# Altium footprint library Alcetronics_IC.PcbLib: 43 footprints (part 2 of 3)
Each footprint in its own frame and in the unit in brackets; x right, y up, seen from the top. Pads: shape width x height; smd on the part's side, far side on the other; paste and mask are expansions set on the pad; w line width, h text height; cw(c..) or ccw(c..) is an arc to the next point about the centre after c.
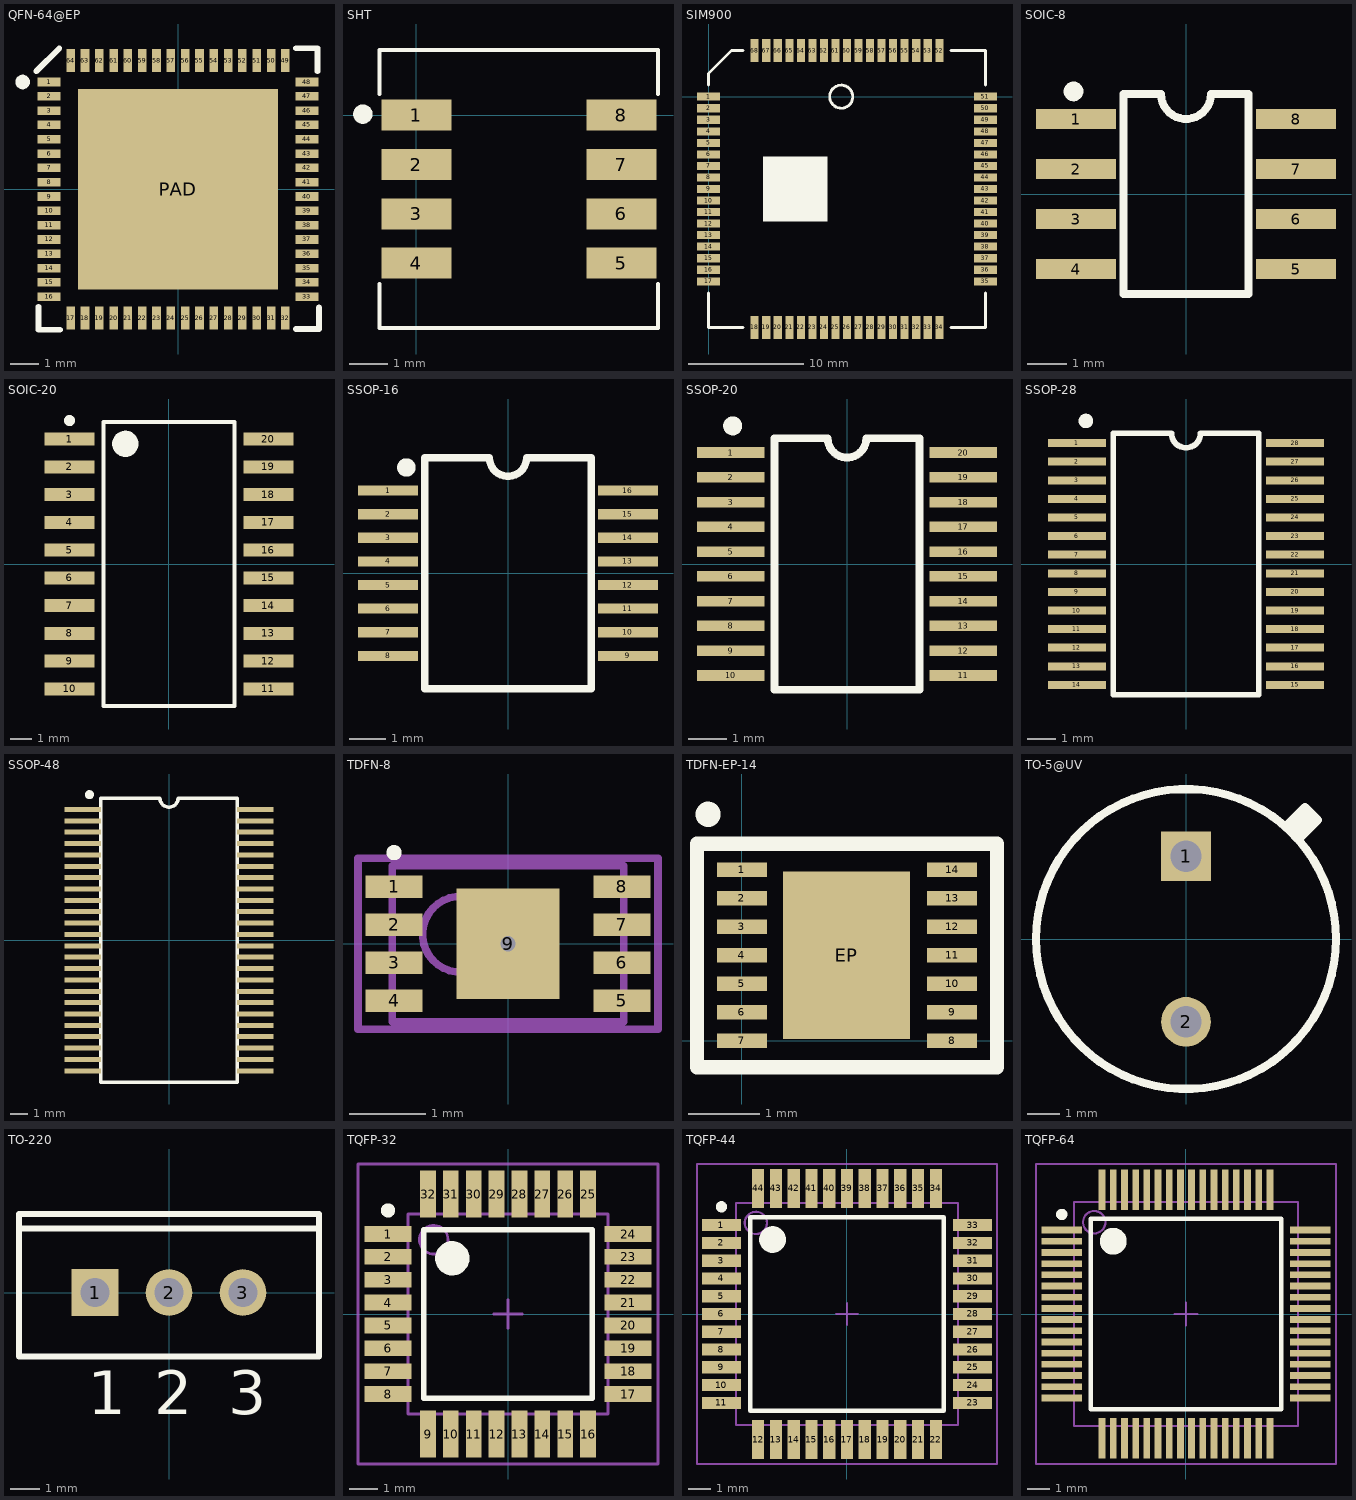
[diagram p1: the footprints below, top view; thin cyan lines are the x and y axes]

## QFN-64@EP [mm]
pads (65):
  rect 0.8x0.3 smd: 1(-4.5,3.75) 2(-4.5,3.25) 3(-4.5,2.75) 4(-4.5,2.25) 5(-4.5,1.75) 6(-4.5,1.25) 7(-4.5,0.75) 8(-4.5,0.25) 9(-4.5,-0.25) 10(-4.5,-0.75) 11(-4.5,-1.25) 12(-4.5,-1.75) 13(-4.5,-2.25) 14(-4.5,-2.75) 15(-4.5,-3.25) 16(-4.5,-3.75) 33(4.5,-3.75) 34(4.5,-3.25) 35(4.5,-2.75) 36(4.5,-2.25) 37(4.5,-1.75) 38(4.5,-1.25) 39(4.5,-0.75) 40(4.5,-0.25) 41(4.5,0.25) 42(4.5,0.75) 43(4.5,1.25) 44(4.5,1.75) 45(4.5,2.25) 46(4.5,2.75) 47(4.5,3.25) 48(4.5,3.75)
  rect 0.3x0.8 smd: 17(-3.75,-4.5) 18(-3.25,-4.5) 19(-2.75,-4.5) 20(-2.25,-4.5) 21(-1.75,-4.5) 22(-1.25,-4.5) 23(-0.75,-4.5) 24(-0.25,-4.5) 25(0.25,-4.5) 26(0.75,-4.5) 27(1.25,-4.5) 28(1.75,-4.5) 29(2.25,-4.5) 30(2.75,-4.5) 31(3.25,-4.5) 32(3.75,-4.5) 49(3.75,4.5) 50(3.25,4.5) 51(2.75,4.5) 52(2.25,4.5) 53(1.75,4.5) 54(1.25,4.5) 55(0.75,4.5) 56(0.25,4.5) 57(-0.25,4.5) 58(-0.75,4.5) 59(-1.25,4.5) 60(-1.75,4.5) 61(-2.25,4.5) 62(-2.75,4.5) 63(-3.25,4.5) 64(-3.75,4.5)
  rect 7x7 smd: PAD(0,0)
Top Overlay:
  circle w0.254: c-5.427,3.75 r0.127
  lines w0.2: -4.95,4.125 -4.15,4.925 ; -4.875,-4.1 -4.875,-4.9 -4.125,-4.9 ; 4.125,-4.875 4.925,-4.875 4.925,-4.125 ; 4.125,4.925 4.875,4.925 4.875,4.125 ; -4.15,4.925 -4.15,4.925

## SHT [mm] "Sensirion SHTx Humidity Sensor Footprint"
height 2.6
pads (8):
  rect 1.8x0.8 smd: 1(0,0.005) 2(0,-1.27) 3(0,-2.54) 4(0,-3.81) 5(5.28,-3.81) 6(5.28,-2.54) 7(5.28,-1.27) 8(5.28,0.005)
Top Overlay:
  circle w0.25: c-1.383,0.03 r0.125
  lines w0.1: -0.95,-4.35 -0.95,-5.48 6.225,-5.48 6.225,-4.35 ; -0.95,0.55 -0.95,1.68 6.225,1.68 6.225,0.55

## SIM900 [mm]
pads (68):
  rect 2x0.7 smd: 1(0,0) 2(0,-1) 3(0,-2) 4(0,-3) 5(0,-4) 6(0,-5) 7(0,-6) 8(0,-7) 9(0,-8) 10(0,-9) 11(0,-10) 12(0,-11) 13(0,-12) 14(0,-13) 15(0,-14) 16(0,-15) 17(0,-16) 35(24,-16) 36(24,-15) 37(24,-14) 38(24,-13) 39(24,-12) 40(24,-11) 41(24,-10) 42(24,-9) 43(24,-8) 44(24,-7) 45(24,-6) 46(24,-5) 47(24,-4) 48(24,-3) 49(24,-2) 50(24,-1) 51(24,0)
  rect 0.7x2 smd: 18(4,-20) 19(5,-20) 20(6,-20) 21(7,-20) 22(8,-20) 23(9,-20) 24(10,-20) 25(11,-20) 26(12,-20) 27(13,-20) 28(14,-20) 29(15,-20) 30(16,-20) 31(17,-20) 32(18,-20) 33(19,-20) 34(20,-20) 52(20,4) 53(19,4) 54(18,4) 55(17,4) 56(16,4) 57(15,4) 58(14,4) 59(13,4) 60(12,4) 61(11,4) 62(10,4) 63(9,4) 64(8,4) 65(7,4) 66(6,4) 67(5,4) 68(4,4)
Top Overlay:
  circle w0.254: c11.5,0 r1
  rectangle: 4.7,-10.8 10.3,-5.2
  lines w0.254: 0,-17 0,-20 3,-20 ; 0,1 0,2 2,4 3,4 ; 21,-20 24,-20 24,-17 ; 21,4 24,4 24,1

## SOIC-8 [mil] "Small Outline 8 leads Body Size 150mils"
pads (8):
  rect 80x20 smd: 1(-110,75) 2(-110,25) 3(-110,-25) 4(-110,-75) 5(110,-75) 6(110,-25) 7(110,25) 8(110,75)
Top Overlay:
  circle w9.84: c-112.5,102.56 r4.92
  lines w8: -62.5,-100 -62.5,100 -25,100 ccw(c0,100) 25,100 62.5,100 62.5,-100 -62.5,-100

## SOIC-20 [mm] "20-Pin Plastic Wide Body Small Outline Integrated Circuit 1.27 mm Pitch, IPC Medium Density"
height 2.65
pads (20):
  rect 2.3x0.6 smd: 1(-4.55,5.715) 2(-4.55,4.445) 3(-4.55,3.175) 4(-4.55,1.905) 5(-4.55,0.635) 6(-4.55,-0.635) 7(-4.55,-1.905) 8(-4.55,-3.175) 9(-4.55,-4.445) 10(-4.55,-5.715) 11(4.55,-5.715) 12(4.55,-4.445) 13(4.55,-3.175) 14(4.55,-1.905) 15(4.55,-0.635) 16(4.55,0.635) 17(4.55,1.905) 18(4.55,3.175) 19(4.55,4.445) 20(4.55,5.715)
Top Overlay:
  circle w0.6: c-2,5.5 r0.3
  circle w0.25: c-4.55,6.565 r0.125
  lines w0.2: -3,-6.5 3,-6.5 3,6.5 -3,6.5 -3,-6.5

## SSOP-16 [mil] "plastic shrink small outline package; 16 leads;"
height 43.31
pads (16):
  rect 65x11 smd: 1(-130,89.57) 2(-130,63.98) 3(-130,38.39) 4(-130,12.8) 5(-130,-12.8) 6(-130,-38.39) 7(-130,-63.98) 8(-130,-89.57) 9(130,-89.57) 10(130,-63.98) 11(130,-38.39) 12(130,-12.8) 13(130,12.8) 14(130,38.39) 15(130,63.98) 16(130,89.57)
Top Overlay:
  circle w10: c-110,114.57 r5
  lines w8: -90,-125 90,-125 90,125 20,125 cw(c0,125) -20,125 -90,125 -90,-125

## SSOP-20 [mil] "Shrink Small Outline; 20 Leads; Body Width 4.4 mm; Pitch 0.65 mm"
height 43.31
pads (20):
  rect 70x11 smd: 1(-120,115.16) 2(-120,89.57) 3(-120,63.98) 4(-120,38.39) 5(-120,12.8) 6(-120,-12.8) 7(-120,-38.39) 8(-120,-63.98) 9(-120,-89.57) 10(-120,-115.16) 11(120,-115.16) 12(120,-89.57) 13(120,-63.98) 14(120,-38.39) 15(120,-12.8) 16(120,12.8) 17(120,38.39) 18(120,63.98) 19(120,89.57) 20(120,115.16)
Top Overlay:
  circle w9.84: c-118.11,142.72 r4.92
  lines w8: -75,-130 75,-130 75,130 20,130 cw(c0,130) -20,130 -75,130 -75,-130

## SSOP-28 [mil]
pads (28):
  rect 80x11 smd: 1(-150,166.4) 2(-150,140.8) 3(-150,115.2) 4(-150,89.6) 5(-150,64) 6(-150,38.4) 7(-150,12.8) 8(-150,-12.8) 9(-150,-38.4) 10(-150,-64) 11(-150,-89.6) 12(-150,-115.2) 13(-150,-140.8) 14(-150,-166.4) 15(150,-166.4) 16(150,-140.8) 17(150,-115.2) 18(150,-89.6) 19(150,-64) 20(150,-38.4) 21(150,-12.8) 22(150,12.8) 23(150,38.4) 24(150,64) 25(150,89.6) 26(150,115.2) 27(150,140.8) 28(150,166.4)
Top Overlay:
  circle w10: c-137.8,196.85 r5
  lines w8: -100,-180 -100,180 -20,180 ccw(c0,180) 20,180 100,180 100,-180 -100,-180

## SSOP-48 [mil]
pads (48):
  rect 80x11 smd: 1(-190,287.5) 2(-190,262.5) 3(-190,237.5) 4(-190,212.5) 5(-190,187.5) 6(-190,162.5) 7(-190,137.5) 8(-190,112.5) 9(-190,87.5) 10(-190,62.5) 11(-190,37.5) 12(-190,12.5) 13(-190,-12.5) 14(-190,-37.5) 15(-190,-62.5) 16(-190,-87.5) 17(-190,-112.5) 18(-190,-137.5) 19(-190,-162.5) 20(-190,-187.5) 21(-190,-212.5) 22(-190,-237.5) 23(-190,-262.5) 24(-190,-287.5) 25(190,-287.5) 26(190,-262.5) 27(190,-237.5) 28(190,-212.5) 29(190,-187.5) 30(190,-162.5) 31(190,-137.5) 32(190,-112.5) 33(190,-87.5) 34(190,-62.5) 35(190,-37.5) 36(190,-12.5) 37(190,12.5) 38(190,37.5) 39(190,62.5) 40(190,87.5) 41(190,112.5) 42(190,137.5) 43(190,162.5) 44(190,187.5) 45(190,212.5) 46(190,237.5) 47(190,262.5) 48(190,287.5)
Top Overlay:
  circle w10: c-175,320 r5
  lines w8: -150,-312.5 150,-312.5 150,312.5 20,312.5 cw(c0,312.5) -20,312.5 -150,312.5 -150,-312.5

## TDFN-8 [mm] "SON, 8-Leads, Body 2x3mm, Pitch 0.5mm, Microchip Recommended"
height 0.8
pads (9):
  rect 0.75x0.3 smd: 1(-1.5,0.75) 2(-1.5,0.25) 3(-1.5,-0.25) 4(-1.5,-0.75) 5(1.5,-0.75) 6(1.5,-0.25) 7(1.5,0.25) 8(1.5,0.75)
  rect 1.36x1.46 smd: 9(0,0)
via 0,0 diameter 0.5 hole 0.2
Top Overlay:
  circle w0.1: c-1.5,1.2 r0.05
Mechanical 13:
  circle w0.1: c-0.625,0.125 r0.5
  lines w0.1: -1.525,-1.025 1.525,-1.025 1.525,1.025 -1.525,1.025 -1.525,-1.025
Mechanical 15:
  lines w0.1: -1.975,-1.125 -1.975,1.125 1.975,1.125 1.975,-1.125 -1.975,-1.125
3D body: height 0.8, standoff 0, extent -1.524,-1.024 1.524,1.024

## TDFN-EP-14 [mm]
pads (15):
  rect 0.7x0.2 smd mask+0: 1(0,2.4) 2(0,2) 4(0,1.2) 6(0,0.4) 9(2.95,0.4) 11(2.95,1.2) 13(2.95,2) 14(2.95,2.4)
  rect 0.7x0.2 smd paste+0 mask+0: 3(0,1.6) 5(0,0.8) 7(0,0) 8(2.95,0) 10(2.95,0.8) 12(2.95,1.6)
  rect 1.78x2.35 smd mask+0: EP(1.47,1.2)
Top Overlay:
  circle w0.254: c-0.475,3.18 r0.049
  lines w0.2: -0.63,-0.37 3.58,-0.37 3.58,2.765 -0.63,2.765 -0.63,-0.37

## TO-5@UV [mil] "UV Sensor PC10-2-TO"
height 165.35
pads (2):
  rect 60x60 hole 38: 1(0,100)
  round 60 hole 38: 2(0,-100)
Top Overlay:
  circle w10: c0,0 r181.1
  lines w10: 120.08,135.83 143.7,159.45 159.45,143.7 138.78,123.03 137.8,123.03 130.91,129.92 130.91,138.78 137.8,131.89 137.8,132.87 147.64,142.72 147.64,145.67 144.68,148.62 ; 138.78,142.72 144.68,148.62 ; 144.68,148.62 144.68,148.62

## TO-220 [mm] "TO, Thru-Hole, Vertical, Heatsink Mounted; 3 In-Line Leads; Pitch 2.54 mm"
height 19.7
pads (3):
  rect 1.6x1.6 hole 1: 1(-2.54,0)
  round 1.6 hole 1: 2(0,0) 3(2.54,0)
Top Overlay:
  lines w0.2: -5.15,2.2 5.15,2.2 ; -5.15,-2.2 -5.15,2.7 5.15,2.7 5.15,-2.2 -5.15,-2.2
  text "3" at 2.04,-4.175 h1.5
  text "2" at -0.5,-4.175 h1.5
  text "1" at -2.79,-4.175 h1.5

## TQFP-32 [mm] "Thin QFP, 32-Leads, Body 7x7mm, Pitch 0.8mm, IPC Medium Density"
height 1.2
pads (32):
  rect 1.65x0.55 smd: 1(-4.2,2.8) 2(-4.2,2) 3(-4.2,1.2) 4(-4.2,0.4) 5(-4.2,-0.4) 6(-4.2,-1.2) 7(-4.2,-2) 8(-4.2,-2.8) 17(4.2,-2.8) 18(4.2,-2) 19(4.2,-1.2) 20(4.2,-0.4) 21(4.2,0.4) 22(4.2,1.2) 23(4.2,2) 24(4.2,2.8)
  rect 0.55x1.65 smd: 9(-2.8,-4.2) 10(-2,-4.2) 11(-1.2,-4.2) 12(-0.4,-4.2) 13(0.4,-4.2) 14(1.2,-4.2) 15(2,-4.2) 16(2.8,-4.2) 25(2.8,4.2) 26(2,4.2) 27(1.2,4.2) 28(0.4,4.2) 29(-0.4,4.2) 30(-1.2,4.2) 31(-2,4.2) 32(-2.8,4.2)
Top Overlay:
  circle w0.25: c-4.2,3.625 r0.125
  circle w0.6: c-1.95,1.95 r0.3
  lines w0.2: -2.95,-2.95 -2.95,2.95 2.95,2.95 2.95,-2.95 -2.95,-2.95
Mechanical 13:
  circle w0.1: c-2.6,2.6 r0.5
  lines w0.1: -3.5,-3.5 -3.5,3.5 3.5,3.5 3.5,-3.5 -3.5,-3.5
Mechanical 15:
  lines w0.1: -0.5,0 0.5,0 ; 0,-0.5 0,0.5 ; -5.25,-5.25 -5.25,5.25 5.25,5.25 5.25,-5.25 -5.25,-5.25
3D body: height 1.2, standoff 0, extent -3.5,-3.5 3.5,3.5

## TQFP-44 [mm] "Thin QFP, 44-Leads, Body 10x10mm, Pitch 0.8mm, IPC Medium Density"
height 1.2
pads (44):
  rect 1.75x0.55 smd: 1(-5.65,4) 2(-5.65,3.2) 3(-5.65,2.4) 4(-5.65,1.6) 5(-5.65,0.8) 6(-5.65,0) 7(-5.65,-0.8) 8(-5.65,-1.6) 9(-5.65,-2.4) 10(-5.65,-3.2) 11(-5.65,-4) 23(5.65,-4) 24(5.65,-3.2) 25(5.65,-2.4) 26(5.65,-1.6) 27(5.65,-0.8) 28(5.65,0) 29(5.65,0.8) 30(5.65,1.6) 31(5.65,2.4) 32(5.65,3.2) 33(5.65,4)
  rect 0.55x1.75 smd: 12(-4,-5.65) 13(-3.2,-5.65) 14(-2.4,-5.65) 15(-1.6,-5.65) 16(-0.8,-5.65) 17(0,-5.65) 18(0.8,-5.65) 19(1.6,-5.65) 20(2.4,-5.65) 21(3.2,-5.65) 22(4,-5.65) 34(4,5.65) 35(3.2,5.65) 36(2.4,5.65) 37(1.6,5.65) 38(0.8,5.65) 39(0,5.65) 40(-0.8,5.65) 41(-1.6,5.65) 42(-2.4,5.65) 43(-3.2,5.65) 44(-4,5.65)
Top Overlay:
  circle w0.25: c-5.65,4.825 r0.125
  circle w0.6: c-3.35,3.35 r0.3
  lines w0.2: -4.35,-4.35 -4.35,4.35 4.35,4.35 4.35,-4.35 -4.35,-4.35
Mechanical 13:
  circle w0.1: c-4.1,4.1 r0.5
  lines w0.1: -5,-5 -5,5 5,5 5,-5 -5,-5
Mechanical 15:
  lines w0.1: -0.5,0 0.5,0 ; 0,-0.5 0,0.5 ; -6.75,-6.75 -6.75,6.75 6.75,6.75 6.75,-6.75 -6.75,-6.75
3D body: height 1.2, standoff 0, extent -5,-5 5,5

## TQFP-64 [mm] "Thin QFP, 64-Leads, Body 10x10mm, Pitch 0.5mm, IPC Medium Density"
height 1.2
pads (64):
  rect 1.8x0.3 smd: 1(-5.55,3.75) 2(-5.55,3.25) 3(-5.55,2.75) 4(-5.55,2.25) 5(-5.55,1.75) 6(-5.55,1.25) 7(-5.55,0.75) 8(-5.55,0.25) 9(-5.55,-0.25) 10(-5.55,-0.75) 11(-5.55,-1.25) 12(-5.55,-1.75) 13(-5.55,-2.25) 14(-5.55,-2.75) 15(-5.55,-3.25) 16(-5.55,-3.75) 33(5.55,-3.75) 34(5.55,-3.25) 35(5.55,-2.75) 36(5.55,-2.25) 37(5.55,-1.75) 38(5.55,-1.25) 39(5.55,-0.75) 40(5.55,-0.25) 41(5.55,0.25) 42(5.55,0.75) 43(5.55,1.25) 44(5.55,1.75) 45(5.55,2.25) 46(5.55,2.75) 47(5.55,3.25) 48(5.55,3.75)
  rect 0.3x1.8 smd: 17(-3.75,-5.55) 18(-3.25,-5.55) 19(-2.75,-5.55) 20(-2.25,-5.55) 21(-1.75,-5.55) 22(-1.25,-5.55) 23(-0.75,-5.55) 24(-0.25,-5.55) 25(0.25,-5.55) 26(0.75,-5.55) 27(1.25,-5.55) 28(1.75,-5.55) 29(2.25,-5.55) 30(2.75,-5.55) 31(3.25,-5.55) 32(3.75,-5.55) 49(3.75,5.55) 50(3.25,5.55) 51(2.75,5.55) 52(2.25,5.55) 53(1.75,5.55) 54(1.25,5.55) 55(0.75,5.55) 56(0.25,5.55) 57(-0.25,5.55) 58(-0.75,5.55) 59(-1.25,5.55) 60(-1.75,5.55) 61(-2.25,5.55) 62(-2.75,5.55) 63(-3.25,5.55) 64(-3.75,5.55)
Top Overlay:
  circle w0.6: c-3.25,3.25 r0.3
  circle w0.25: c-5.55,4.45 r0.125
  lines w0.2: -4.25,-4.25 4.25,-4.25 4.25,4.25 -4.25,4.25 -4.25,-4.25
Mechanical 13:
  circle w0.1: c-4.1,4.1 r0.5
  lines w0.1: -5,-5 5,-5 5,5 -5,5 -5,-5
Mechanical 15:
  lines w0.1: -0.5,0 0.5,0 ; 0,-0.5 0,0.5 ; -6.7,-6.7 6.7,-6.7 6.7,6.7 -6.7,6.7 -6.7,-6.7
3D body: height 1.2, standoff 0, extent -5,-5 5,5